# Altium footprint library reg-board-header.PcbLib: 1 footprints
Each footprint in its own frame and in the unit in brackets; x right, y up, seen from the top. Pads: shape width x height; smd on the part's side, far side on the other; paste and mask are expansions set on the pad; w line width, h text height; cw(c..) or ccw(c..) is an arc to the next point about the centre after c.
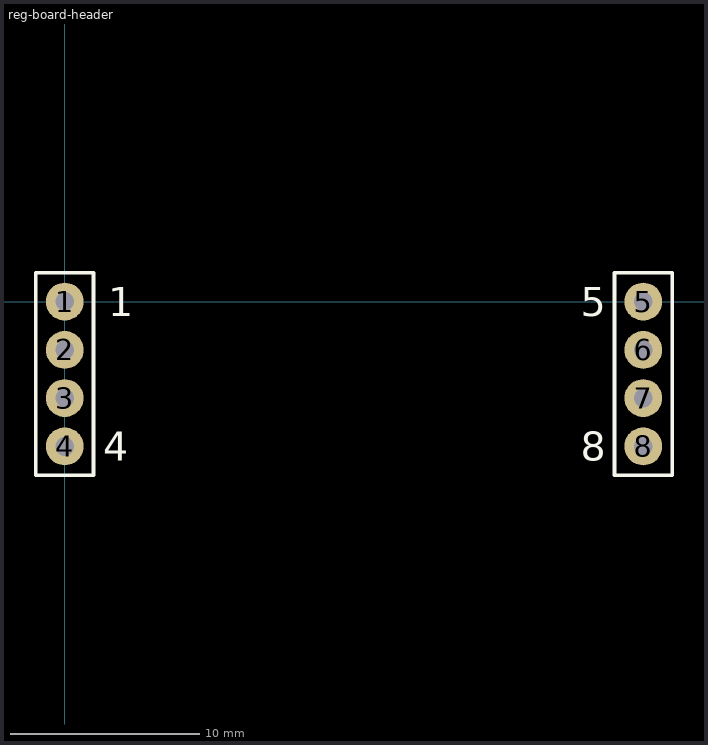
[diagram p0: the footprint, top view; thin cyan lines are the x and y axes]

## reg-board-header [mm]
height 10
pads (8):
  round 2 hole 1: 1(0,0) 2(0,-2.54) 3(0,-5.08) 4(0,-7.62) 5(30.48,0) 6(30.48,-2.54) 7(30.48,-5.08) 8(30.48,-7.62)
Top Overlay:
  lines w0.203: -1.524,-9.144 1.524,-9.144 1.524,1.524 -1.524,1.524 -1.524,-9.144 ; 28.956,-9.144 28.956,1.524 32.004,1.524 32.004,-9.144 28.956,-9.144
  text "8" at 27.178,-8.382 h1.52
  text "5" at 27.178,-0.762 h1.52
  text "4" at 2.032,-8.382 h1.52
  text "1" at 2.286,-0.762 h1.52
3D body "HN-1x4.STEP": height 10.1, standoff -1.5, extent 29.21,-8.89 31.75,1.27
3D body "HN-1x4.STEP": height 10.1, standoff -1.5, extent -1.27,-8.89 1.27,1.27